# EAGLE library part TCA9543A (library nathans-custom-parts)
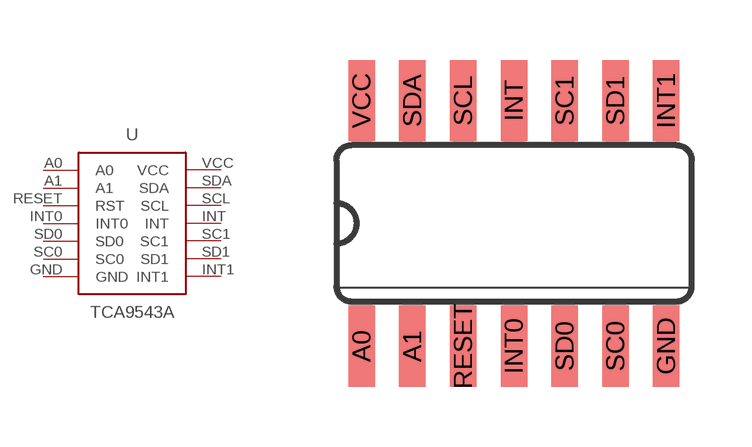
[diagram p2: symbol with the pads of SO14; footprint SO14]

Designator prefix -

## TCA9543A  [SO14]
A0  A0
A1  A1
GND  GND
INT  INT
INT0  INT0
INT1  INT1
RESET  RST
SC0  SC0
SC1  SC1
SCL  SCL
SD0  SD0
SD1  SD1
SDA  SDA
VCC  VCC

## Footprint SO14 (pad centres in mm)
Small Outline package 150 mil
smd 0.66 x 2.032: A0 -3.81,-3.073; A1 -2.54,-3.073; GND 3.81,-3.073; INT 0,3.073; INT0 0,-3.073; INT1 3.81,3.073; RESET -1.27,-3.073; SC0 2.54,-3.073; SC1 1.27,3.073; SCL -1.27,3.073; SD0 1.27,-3.073; SD1 2.54,3.073; SDA -2.54,3.073; VCC -3.81,3.073